# EAGLE library part TS3A4751 (library rs41)
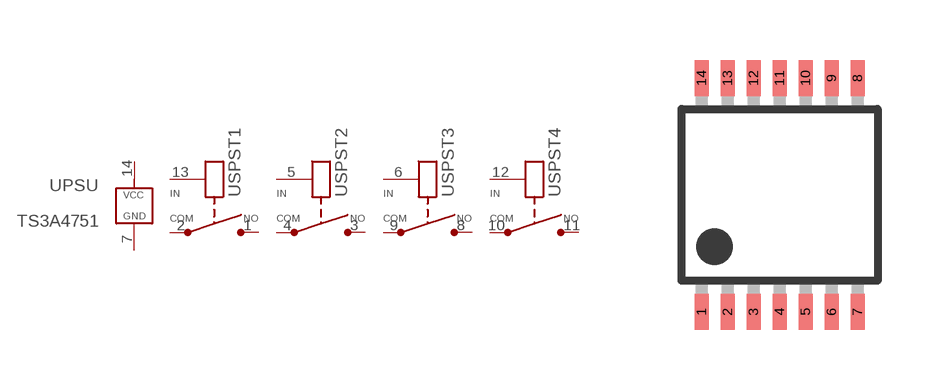
[diagram p0: symbol with the pads of TSSOP14; footprint TSSOP14]

Designator prefix U; gates PSU=PSU SPST1=SPST SPST2=SPST SPST3=SPST SPST4=SPST

## TS3A4751  [TSSOP14]
1  SPST1:NO
2  SPST1:COM
3  SPST2:NO
4  SPST2:COM
5  SPST2:IN
6  SPST3:IN
7  PSU:GND
8  SPST3:NO
9  SPST3:COM
10  SPST4:COM
11  SPST4:NO
12  SPST4:IN
13  SPST1:IN
14  PSU:VCC

## Footprint TSSOP14 (pad centres in mm)
plastic thin shrink small outline package; 14 leads; body width 4.4 mm SOT402-1 Source: http://www.nxp.com/documents/data_sheet/74ABT125.pdf
smd 0.35 x 0.9: 1 -1.95,-2.925; 2 -1.3,-2.925; 3 -0.65,-2.925; 4 0,-2.925; 5 0.65,-2.925; 6 1.3,-2.925; 7 1.95,-2.925; 8 1.95,2.925; 9 1.3,2.925; 10 0.65,2.925; 11 0,2.925; 12 -0.65,2.925; 13 -1.3,2.925; 14 -1.95,2.925